# Altium integrated library WE_WR-TBL_Wire Protector System_7.50 mm_rev15a.IntLib: 6 symbols
Pins are listed as number, name and electrical type; pins without a type are passive.

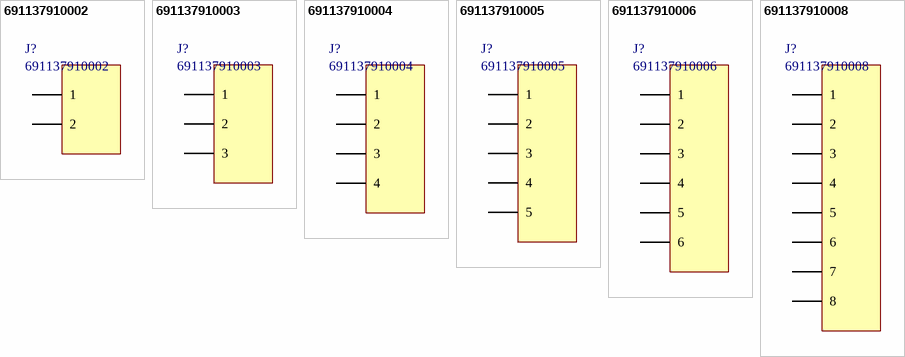
[diagram p0: symbols 691137910002 to 691137910008]

## 691137910002
designator J?
Horizontal Cable Entry with Pressure Clamp, Serie 1379 - 7.50 mm; Manufacturer: Wurth Elektronik; ComponentLink1 Description: Manufacturer; ComponentLink2 Description: Datasheet; NoPins: 2; ComponentLink1 URL: http://www.we-online.com; ComponentLink2 URL: http://katalog.we-online.de/em/datasheet/6911379100xx.pdf; Created By: Baojun Chen; Created Date: 6-Aug-15; PartNo: 691137910002
footprint 691137910002 (Serie 1379 - 7.50 mm_2 pins)
pins: 1, 2

## 691137910003
designator J?
Horizontal Cable Entry with Pressure Clamp, Serie 1379 - 7.50 mm; Manufacturer: Wurth Elektronik; ComponentLink1 Description: Manufacturer; ComponentLink2 Description: Datasheet; NoPins: 3; ComponentLink1 URL: http://www.we-online.com; ComponentLink2 URL: http://katalog.we-online.de/em/datasheet/6911379100xx.pdf; Created By: Baojun Chen; Created Date: 6-Aug-15; PartNo: 691137910003
footprint 691137910003 (Serie 1379 - 7.50 mm_3 pins)
pins: 1, 2, 3

## 691137910004
designator J?
Horizontal Cable Entry with Pressure Clamp, Serie 1379 - 7.50 mm; Manufacturer: Wurth Elektronik; ComponentLink1 Description: Manufacturer; ComponentLink2 Description: Datasheet; NoPins: 4; ComponentLink1 URL: http://www.we-online.com; ComponentLink2 URL: http://katalog.we-online.de/em/datasheet/6911379100xx.pdf; Created By: Baojun Chen; Created Date: 6-Aug-15; PartNo: 691137910004
footprint 691137910004 (Serie 1379 - 7.50 mm_4 pins)
pins: 1, 2, 3, 4

## 691137910005
designator J?
Horizontal Cable Entry with Pressure Clamp, Serie 1379 - 7.50 mm; Manufacturer: Wurth Elektronik; ComponentLink1 Description: Manufacturer; ComponentLink2 Description: Datasheet; NoPins: 5; ComponentLink1 URL: http://www.we-online.com; ComponentLink2 URL: http://katalog.we-online.de/em/datasheet/6911379100xx.pdf; Created By: Baojun Chen; Created Date: 6-Aug-15; PartNo: 691137910005
footprint 691137910005 (Serie 1379 - 7.50 mm_5 pins)
pins: 1, 2, 3, 4, 5

## 691137910006
designator J?
Horizontal Cable Entry with Pressure Clamp, Serie 1379 - 7.50 mm; Manufacturer: Wurth Elektronik; ComponentLink1 Description: Manufacturer; ComponentLink2 Description: Datasheet; NoPins: 6; ComponentLink1 URL: http://www.we-online.com; ComponentLink2 URL: http://katalog.we-online.de/em/datasheet/6911379100xx.pdf; Created By: Baojun Chen; Created Date: 6-Aug-15; PartNo: 691137910006
footprint 691137910006 (Serie 1379 - 7.50 mm_6 pins)
pins: 1, 2, 3, 4, 5, 6

## 691137910008
designator J?
Horizontal Cable Entry with Pressure Clamp, Serie 1379 - 7.50 mm; Manufacturer: Wurth Elektronik; ComponentLink1 Description: Manufacturer; ComponentLink2 Description: Datasheet; NoPins: 8; ComponentLink1 URL: http://www.we-online.com; ComponentLink2 URL: http://katalog.we-online.de/em/datasheet/6911379100xx.pdf; Created By: Baojun Chen; Created Date: 6-Aug-15; PartNo: 691137910008
footprint 691137910008 (Serie 1379 - 7.50 mm_8 pins)
pins: 1, 2, 3, 4, 5, 6, 7, 8